# Altium footprint library Chip_kz85.PcbLib: 312 footprints (part 20 of 20)
Each footprint in its own frame and in the unit in brackets; x right, y up, seen from the top. Pads: shape width x height; smd on the part's side, far side on the other; paste and mask are expansions set on the pad; w line width, h text height; cw(c..) or ccw(c..) is an arc to the next point about the centre after c.
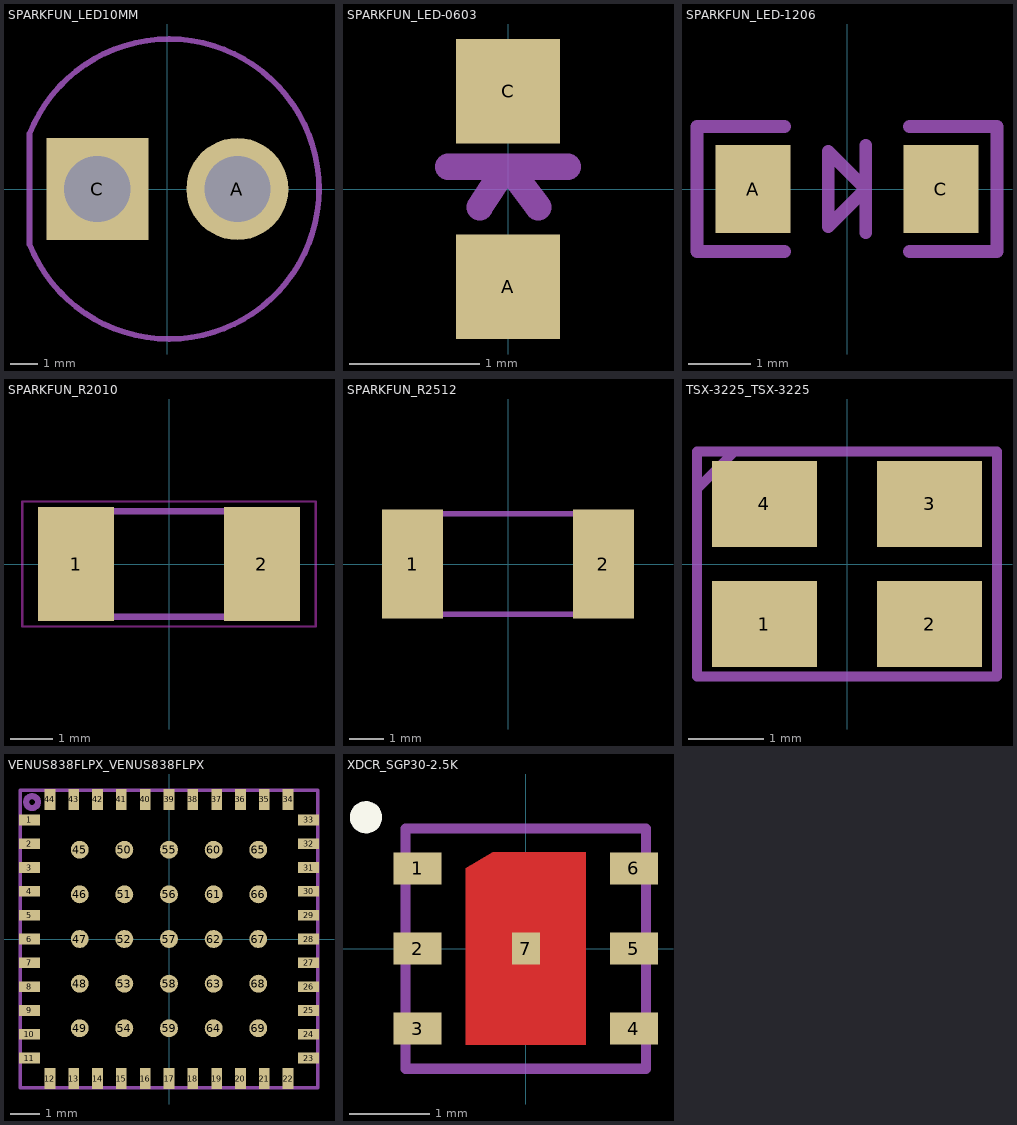
[diagram p19: the footprints below, top view; thin cyan lines are the x and y axes]

## SPARKFUN_LED10MM [mm]
pads (2):
  round 3.7 hole 2.4: A(2.54,0)
  rect 3.7x3.7 / inner round 3.418 / far side rect 3.7x3.7 hole 2.4: C(-2.54,0)
Mechanical 3:
  text "L" at 2.159,2.54 h1.57
  text "S" at -2.921,2.54 h1.57
Mechanical 7:
  lines w0.203: -5,-2 ccw(c0.059,0) -5,2 -5,-2

## SPARKFUN_LED-0603 [mil]
pads (2):
  rect 31.5x31.5 smd: A(0,-29.53) C(0,29.53)
Mechanical 7:
  lines w8: -18.11,6.69 0,6.69 ; -8.6,-5.51 -1,6.09 ; 9.2,-5.51 0,6.69 ; 18.11,6.69 0,6.69

## SPARKFUN_LED-1206 [mil]
pads (2):
  rect 47.24x55.12 smd: A(-59.06,0) C(59.06,0)
Mechanical 7:
  lines w8: -39.37,-39.37 -94.49,-39.37 -94.49,39.37 -39.37,39.37 ; 11.81,-27.56 11.81,0 ; 11.81,27.56 11.81,0 ; 39.37,-39.37 94.49,-39.37 94.49,39.37 39.37,39.37 ; 11.81,0 -11.81,-23.62 -11.81,23.62 11.81,0

## SPARKFUN_R2010 [mil]
pads (2):
  rect 70.87x106.3 smd: 1(-86.61,0) 2(86.61,0)
Top Layer keep-out:
  lines w2: -136.73,-58.39 136.73,-58.39 136.73,58.39 -136.73,58.39 -136.73,-58.39
Mechanical 3:
  region: -98,-52 -98,52.33 -64.54,52.33 -64.54,-52
  region: 65,-52 65,52.33 98.46,52.33 98.46,-52
  lines w6: -65.43,49.02 65.43,49.02 ; -64.45,-49.02 66.42,-49.02
Mechanical 7:
  lines w6: -40.43,49.02 40.43,49.02 ; -39.45,-49.02 40,-49.02

## SPARKFUN_R2512 [mil]
pads (2):
  rect 70.87x125.98 smd: 1(-110.24,0) 2(110.24,0)
Mechanical 3:
  region: 93,-61 93,61.05 126.46,61.05 126.46,-61
  region: -126,-61 -126,61.05 -92.54,61.05 -92.54,-61
  lines w6: -92.99,-57.99 93.98,-57.99 ; -92.99,57.99 93.98,57.99

## TSX-3225_TSX-3225 [mil]
pads (4):
  rect 55.12x45.28 smd: 1(-43.31,-31.5) 2(43.31,-31.5) 3(43.31,31.5) 4(-43.31,31.5)
Mechanical 7:
  lines w5: -78.74,39.37 -78.74,-59.06 78.74,-59.06 78.74,59.06 -59.06,59.06 ; -78.74,39.37 -78.74,59.06 -59.06,59.06 ; -78.74,39.37 -59.06,59.06

## VENUS838FLPX_VENUS838FLPX [mm]
pads (69):
  rect 0.7x0.36 smd: 1(-4.69,4) 2(-4.69,3.2) 3(-4.69,2.4) 4(-4.69,1.6) 5(-4.69,0.8) 6(-4.69,0) 7(-4.69,-0.8) 8(-4.69,-1.6) 9(-4.69,-2.4) 10(-4.69,-3.2) 11(-4.69,-4) 23(4.69,-4) 24(4.69,-3.2) 25(4.69,-2.4) 26(4.69,-1.6) 27(4.69,-0.8) 28(4.69,0) 29(4.69,0.8) 30(4.69,1.6) 31(4.69,2.4) 32(4.69,3.2) 33(4.69,4)
  rect 0.36x0.7 smd: 12(-4,-4.69) 13(-3.2,-4.69) 14(-2.4,-4.69) 15(-1.6,-4.69) 16(-0.8,-4.69) 17(0,-4.69) 18(0.8,-4.69) 19(1.6,-4.69) 20(2.4,-4.69) 21(3.2,-4.69) 22(4,-4.69) 34(4,4.69) 35(3.2,4.69) 36(2.4,4.69) 37(1.6,4.69) 38(0.8,4.69) 39(0,4.69) 40(-0.8,4.69) 41(-1.6,4.69) 42(-2.4,4.69) 43(-3.2,4.69) 44(-4,4.69)
  rrect100% 0.6x0.6 smd: 45(-3,3) 46(-3,1.5) 47(-3,0) 48(-3,-1.5) 49(-3,-3) 50(-1.5,3) 51(-1.5,1.5) 52(-1.5,0) 53(-1.5,-1.5) 54(-1.5,-3) 55(0,3) 56(0,1.5) 57(0,0) 58(0,-1.5) 59(0,-3) 60(1.5,3) 61(1.5,1.5) 62(1.5,0) 63(1.5,-1.5) 64(1.5,-3) 65(3,3) 66(3,1.5) 67(3,0) 68(3,-1.5) 69(3,-3)
Mechanical 7:
  circle w0.203: c-4.6,4.6 r0.2
  lines w0.127: -5,-5 5,-5 5,5 -5,5 -5,-5

## XDCR_SGP30-2.5K [mm]
pads (7):
  rect 0.6x0.4 smd paste+0: 1(-1.35,1) 2(-1.35,0) 3(-1.35,-1) 4(1.35,-1) 5(1.35,0) 6(1.35,1)
  rect 0.35x0.4 smd paste+0 mask+0: 7(0,0)
Top Layer:
  region: 0.75,1.2 0.75,-1.2 -0.75,-1.2 -0.75,1 -0.415,1.2
Top Overlay:
  circle w0.2: c-1.994,1.638 r0.1
  circle w0.2: c-1.994,1.638 r0.1
Top Paste:
  region: -1.629,-0.2 -1.629,0.2 -1.079,0.2 -1.079,-0.2
  region: -1.621,0.8 -1.621,1.194 -1.071,1.194 -1.071,0.8
  region: -1.629,-1.203 -1.629,-0.803 -1.079,-0.803 -1.079,-1.203
  region: 1.621,1.2 1.621,0.8 1.071,0.8 1.071,1.2
  region: 1.621,0.197 1.621,-0.203 1.071,-0.203 1.071,0.197
  region: 1.621,-0.8 1.621,-1.2 1.071,-1.2 1.071,-0.8
  region: 0.525,0.75 0.525,-0.75 -0.525,-0.75 -0.525,0.54 -0.315,0.75
Top Solder:
  region: 0.75,1.2 0.75,-1.2 -0.75,-1.2 -0.75,1 -0.415,1.2
Mechanical 3:
  lines w0.127: -1.5,-1.5 1.5,-1.5 ; -1.5,-1.5 -1.5,1.5 ; -1.5,-1.5 1.5,-1.5 ; -1.5,1.5 1.5,1.5 ; -1.5,1.5 1.5,1.5 ; 1.5,-1.5 1.5,1.5